# Altium schematic symbol library TR_NPN_PHOTO.Schlib: 1 symbol
Pins are listed as number, name and electrical type; pins without a type are passive.

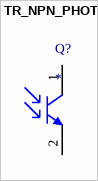
[diagram p0: symbol TR_NPN_PHOTO]

## TR_NPN_PHOTO
designator Q?
pins: 1 C, 2 B